# EAGLE library part GA3459-BL (library inductor-coilcraft-2b)
Coilcraft GA3459 Flyback Transformers for Linear Technology LT3751 Description: COTS flyback transformer for 50-500V capacitor charger circuits. For similar functionality, check out LT3757 in conjunction with Coilcraft DA2032..DA2034. Features: Flyback transformer for the Linear Technology LT3751 Capacitor Charger Controller for charging capacitors to 500 V GA3459-BL: 5 – 24 V input; GA3460-BL: 12 – 24 V input 1500 Vrms, one minute isolation from primary to secondary windings Flux shield minimizes EMI emission Part-No. L (µH) @ I=0A L (µH) @ Ipk DCR (mOhm) prim. DCR (mOhm) sec. Lleak (µH) T prim:sec Ipk (A) GA3459-BL 5.0 4.25 7.70 515 0.10 1 : 10 20 GA3460-BL 2.5 2.25 5.63 400 0.06 1 : 10 50 Datasheet: http://www.coilcraft.com/pdfs/ga3459.pdf
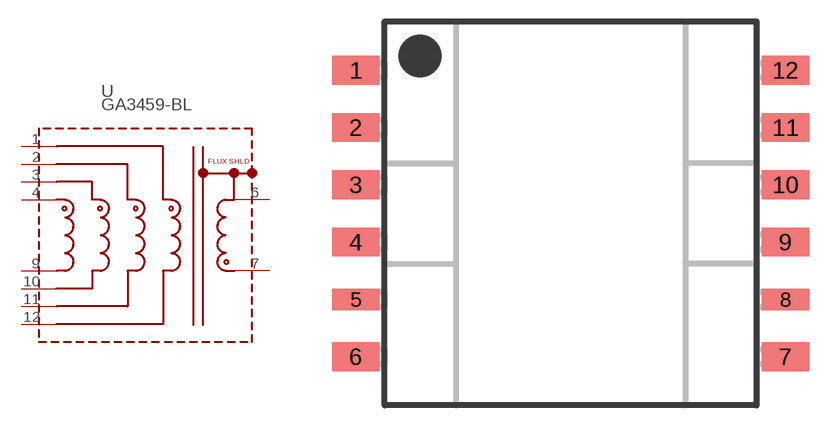
[diagram p1: symbol with the pads of GA3459; footprint GA3459]

Designator prefix -

## GA3459-BL  [GA3459]
1  W11  pas
2  W21  pas
3  W31  pas
4  W41  pas
6  S1  pas
7  S2  pas
9  W42  pas
10  W32  pas
11  W22  pas
12  W12  pas

## Footprint GA3459 (pad centres in mm)
Coilcraft GA3459-BL / GA3460-BL flyback transformer - surface mount component - custom engineered for LT3751 capacitor charger applications
smd 3.3 x 2: 1 -15,10; 2 -15,6; 3 -15,2; 4 -15,-2; 6 -15,-10; 7 15,-10; 9 15,-2; 10 15,2; 11 15,6; 12 15,10
smd 3.3 x 1.5: 5 -15,-6; 8 15,-6